# EAGLE library part PICBASIC2H (library comfile_G)
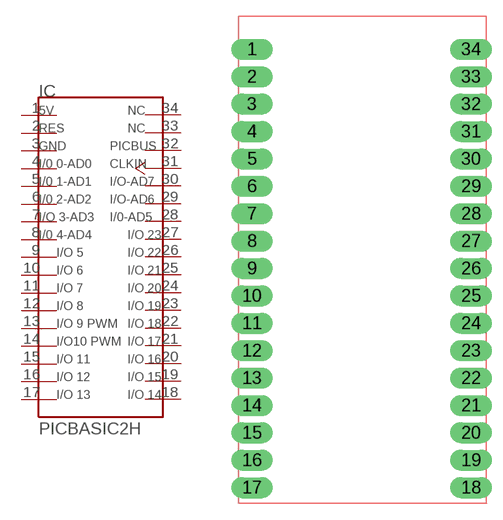
[diagram p0: symbol with the pads of PICBASIC2H; footprint PICBASIC2H]

Designator prefix IC

## PICBASIC2H  [PICBASIC2H]
1  1  pwr
2  2  hiz
3  3  pwr
4  4
5  5
6  6
7  7
8  8
9  9
10  10
11  11
12  12
13  13
14  14
15  15
16  16
17  17
18  18
19  19
20  20
21  21
22  22
23  23
24  24
25  25
26  26
27  27
28  28
29  29
30  30
31  31  oc
32  32  pas
33  33  nc
34  34  nc

## Footprint PICBASIC2H (pad centres in mm)
drill 0.6 pad 1.93 long: 1 1.25,41.93; 2 1.25,39.39; 3 1.25,36.85; 4 1.25,34.31; 5 1.25,31.77; 6 1.25,29.23; 7 1.25,26.69; 8 1.25,24.15; 9 1.25,21.61; 10 1.25,19.07; 11 1.25,16.53; 12 1.25,13.99; 13 1.25,11.45; 14 1.25,8.91; 15 1.25,6.37; 16 1.25,3.83; 17 1.25,1.29; 18 21.57,1.29; 19 21.57,3.83; 20 21.57,6.37; 21 21.57,8.91; 22 21.57,11.45; 23 21.57,13.99; 24 21.57,16.53; 25 21.57,19.07; 26 21.57,21.61; 27 21.57,24.15; 28 21.57,26.69; 29 21.57,29.23; 30 21.57,31.77; 31 21.57,34.31; 32 21.57,36.85; 33 21.57,39.39; 34 21.57,41.93